# Altium footprint library resistor.PCBLIB: 427 footprints (part 4 of 27)
Each footprint in its own frame and in the unit in brackets; x right, y up, seen from the top. Pads: shape width x height; smd on the part's side, far side on the other; paste and mask are expansions set on the pad; w line width, h text height; cw(c..) or ccw(c..) is an arc to the next point about the centre after c.
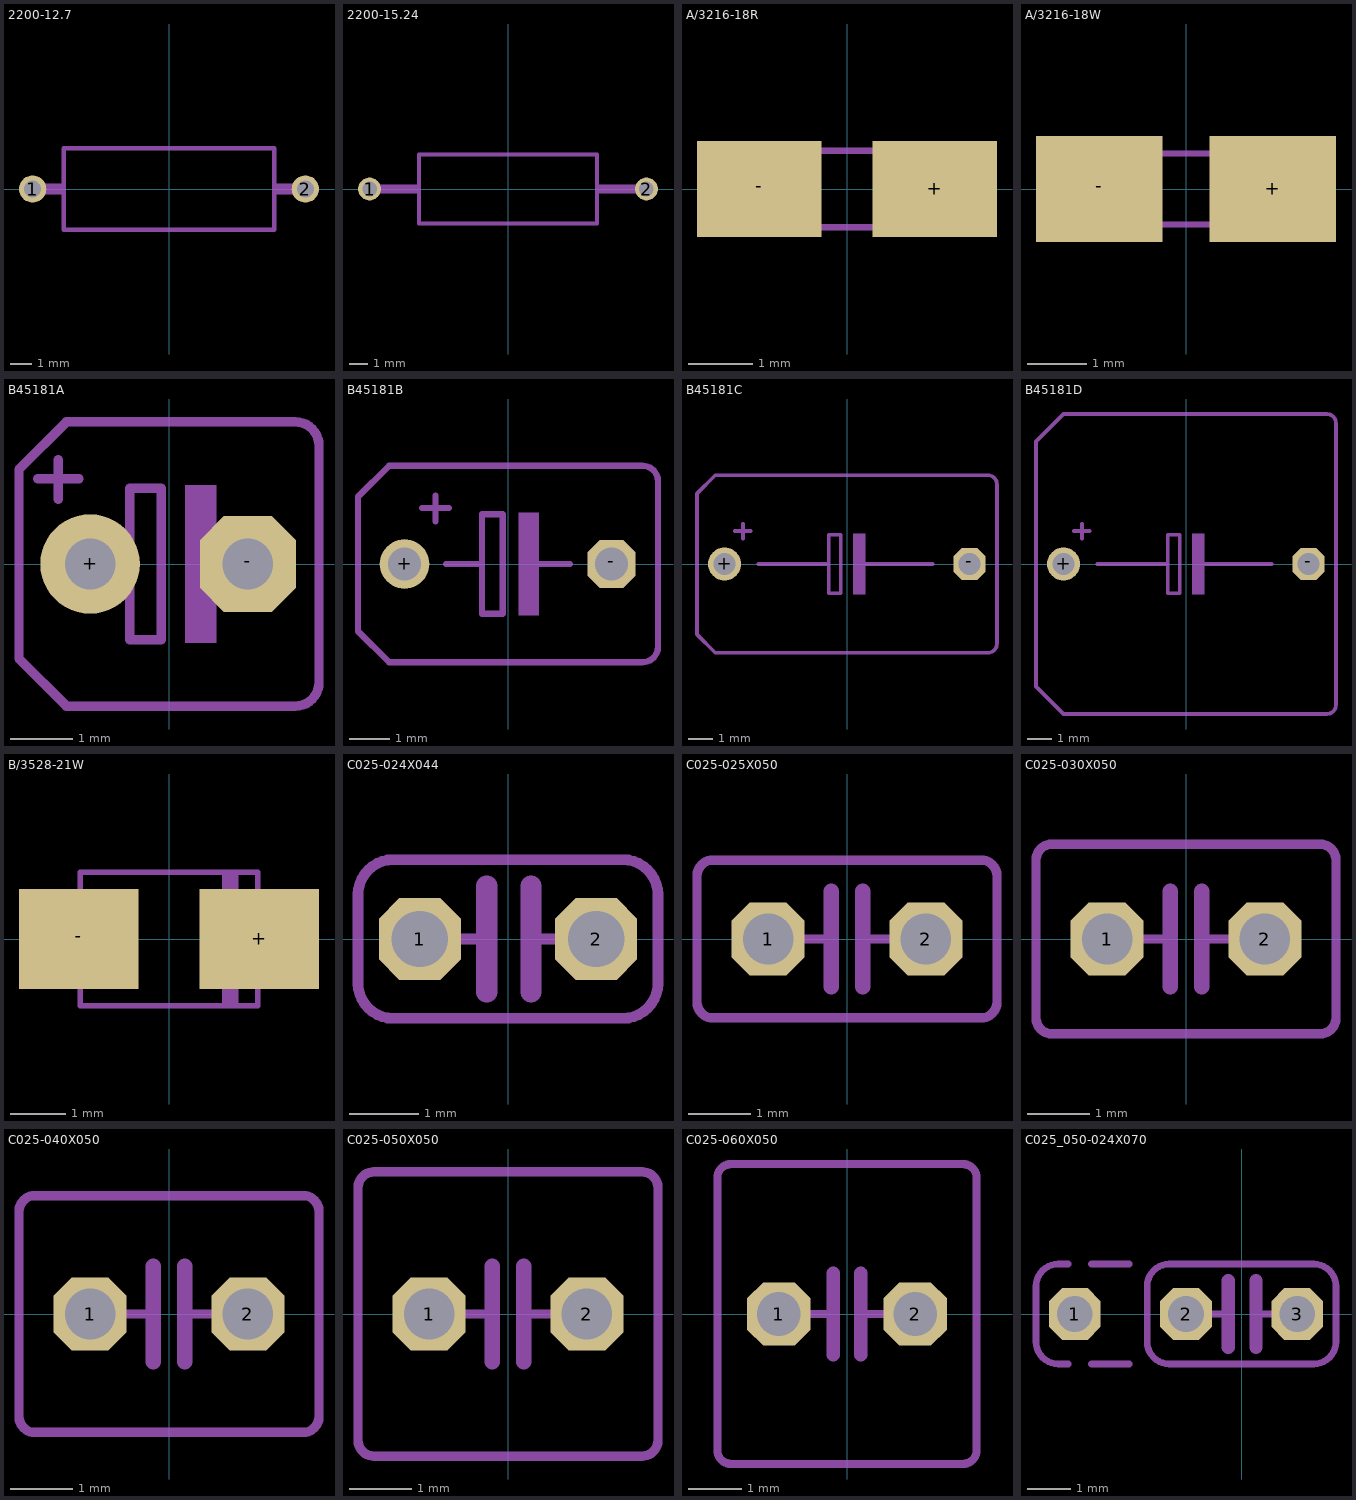
[diagram p3: the footprints below, top view; thin cyan lines are the x and y axes]

## 2200-12.7 [mil]
pads (2):
  round 50 hole 31.5: 1(-250,0) 2(250,0)
Mechanical 18:
  lines w8: -192.91,-74.8 192.91,-74.8 192.91,74.8 -192.91,74.8 -192.91,-74.8
  lines w19.69: -250,0 -200,0 ; 200,0 250,0

## 2200-15.24 [mil]
pads (2):
  round 50 hole 31.5: 1(-300,0) 2(300,0)
Mechanical 18:
  lines w8: -192.91,-74.8 192.91,-74.8 192.91,74.8 -192.91,74.8 -192.91,-74.8
  lines w19.69: -300,0 -200,0 ; 200,0 300,0

## A/3216-18R [mil]
pads (2):
  rect 76.77x59.06 smd: +(54.13,0) -(-54.13,0)
Mechanical 18:
  rectangle: -62.99,-23.62 -58.07,23.62
  rectangle: 58.07,-23.62 62.99,23.62
  rectangle: 31.5,-24.61 43.31,24.61
  lines w4: -57.09,-23.62 57.09,-23.62 57.09,23.62 -57.09,23.62 -57.09,-23.62

## A/3216-18W [mil]
pads (2):
  rect 84.65x70.87 smd: +(58.07,0) -(-58.07,0)
Mechanical 18:
  rectangle: -62.99,-23.62 -58.07,23.62
  rectangle: 58.07,-23.62 62.99,23.62
  rectangle: 31.5,-24.61 43.31,24.61
  lines w4: -57.09,-23.62 57.09,-23.62 57.09,23.62 -57.09,23.62 -57.09,-23.62

## B45181A [mil]
pads (2):
  round 63 hole 32: +(-50,0)
  oct 61x61 hole 32: -(50,0)
Mechanical 2:
  lines w6: -83,54 -57,54 ; -70,41 -70,66 ; -95,-60 -65,-90 80,-90 ccw(c80,-75) 95,-75 95,75 ccw(c80,75) 80,90 -65,90 -95,60 -95,-60
Mechanical 18:
  rectangle: 10,-50 30,50
  lines w6: -65,0 -25,0 ; 25,0 65,0 ; -25,0 -25,-48 -5,-48 -5,48 -25,48 -25,0

## B45181B [mil]
pads (2):
  round 48 hole 32: +(-100,0)
  oct 46.48x46.48 hole 32: -(100,0)
Mechanical 2:
  rectangle: 10,-50 30,50
  lines w6: -83,54 -57,54 ; -70,41 -70,66 ; -60,0 -25,0 ; 25,0 60,0 ; -25,0 -25,-48 -5,-48 -5,48 -25,48 -25,0 ; -145,-65 -115,-95 130,-95 ccw(c130,-80) 145,-80 145,80 ccw(c130,80) 130,95 -115,95 -145,65 -145,-65

## B45181C [mil]
pads (2):
  round 54 hole 36: +(-200,0)
  oct 52.29x52.29 hole 36: -(200,0)
Mechanical 2:
  rectangle: 10,-50 30,50
  lines w6: -183,54 -157,54 ; -170,41 -170,66 ; -145,0 -30,0 ; 25,0 140,0 ; -30,0 -30,-48 -10,-48 -10,48 -30,48 -30,0 ; -245,-115 -215,-145 230,-145 ccw(c230,-130) 245,-130 245,130 ccw(c230,130) 230,145 -215,145 -245,115 -245,-115

## B45181D [mil]
pads (2):
  round 54 hole 36: +(-200,0)
  oct 52.29x52.29 hole 36: -(200,0)
Mechanical 2:
  rectangle: 10,-50 30,50
  lines w6: -183,54 -157,54 ; -170,41 -170,66 ; -145,0 -30,0 ; 25,0 140,0 ; -30,0 -30,-48 -10,-48 -10,48 -30,48 -30,0 ; -245,-200 -200,-245 230,-245 ccw(c230,-230) 245,-230 245,230 ccw(c230,230) 230,245 -200,245 -245,200 -245,-200

## B/3528-21W [mil]
pads (2):
  rect 84.65x70.87 smd: +(63.98,0) -(-63.98,0)
Mechanical 18:
  rectangle: -68.9,-23.62 -63.98,23.62
  rectangle: 63.98,-23.62 68.9,23.62
  rectangle: 37.4,-48.23 49.21,48.23
  lines w4: -62.99,-47.24 62.99,-47.24 62.99,47.24 -62.99,47.24 -62.99,-47.24

## C025-024X044 [mil]
pads (2):
  oct 46.48x46.48 hole 32: 1(-50,0) 2(50,0)
Mechanical 2:
  lines w6: -85,-25 -85,25 cw(c-65,25) -65,45 65,45 cw(c65,25) 85,25 85,-25 cw(c65,-25) 65,-45 -65,-45 cw(c-65,-25) -85,-25
  lines w12: -12,-30 -12,30 ; 13,-30 13,30
Mechanical 18:
  lines w6: -50,0 -12,0 ; 13,0 50,0

## C025-025X050 [mil]
pads (2):
  oct 46.48x46.48 hole 32: 1(-50,0) 2(50,0)
Mechanical 2:
  lines w6: -15,0 -10,0 ; 10,0 15,0 ; -95,-40 -95,40 cw(c-85,40) -85,50 85,50 cw(c85,40) 95,40 95,-40 cw(c85,-40) 85,-50 -85,-50 cw(c-85,-40) -95,-40
  lines w10: -10,-30 -10,0 -10,30 ; 10,-30 10,0 10,30
Mechanical 18:
  lines w6: -30,0 -15,0 ; 15,0 30,0

## C025-030X050 [mil]
pads (2):
  oct 46.48x46.48 hole 32: 1(-50,0) 2(50,0)
Mechanical 2:
  lines w6: -15,0 -10,0 ; 10,0 15,0 ; -95,-50 -95,50 cw(c-85,50) -85,60 85,60 cw(c85,50) 95,50 95,-50 cw(c85,-50) 85,-60 -85,-60 cw(c-85,-50) -95,-50
  lines w10: -10,-30 -10,0 -10,30 ; 10,-30 10,0 10,30
Mechanical 18:
  lines w6: -30,0 -15,0 ; 15,0 30,0

## C025-040X050 [mil]
pads (2):
  oct 46.48x46.48 hole 32: 1(-50,0) 2(50,0)
Mechanical 2:
  lines w6: -15,0 -10,0 ; 10,0 15,0 ; -95,-65 -95,65 cw(c-85,65) -85,75 85,75 cw(c85,65) 95,65 95,-65 cw(c85,-65) 85,-75 -85,-75 cw(c-85,-65) -95,-65
  lines w10: -10,-30 -10,0 -10,30 ; 10,-30 10,0 10,30
Mechanical 18:
  lines w6: -30,0 -15,0 ; 15,0 30,0

## C025-050X050 [mil]
pads (2):
  oct 46.48x46.48 hole 32: 1(-50,0) 2(50,0)
Mechanical 2:
  lines w6: -15,0 -10,0 ; 10,0 15,0 ; -95,-80 -95,80 cw(c-85,80) -85,90 85,90 cw(c85,80) 95,80 95,-80 cw(c85,-80) 85,-90 -85,-90 cw(c-85,-80) -95,-80
  lines w10: -10,-30 -10,0 -10,30 ; 10,-30 10,0 10,30
Mechanical 18:
  lines w6: -30,0 -15,0 ; 15,0 30,0

## C025-060X050 [mil]
pads (2):
  oct 46.48x46.48 hole 32: 1(-50,0) 2(50,0)
Mechanical 2:
  lines w6: -15,0 -10,0 ; 10,0 15,0 ; -95,-100 -95,100 cw(c-85,100) -85,110 85,110 cw(c85,100) 95,100 95,-100 cw(c85,-100) 85,-110 -85,-110 cw(c-85,-100) -95,-100
  lines w10: -10,-30 -10,0 -10,30 ; 10,-30 10,0 10,30
Mechanical 18:
  lines w6: -30,0 -15,0 ; 15,0 30,0

## C025_050-024X070 [mil]
pads (3):
  oct 46.48x46.48 hole 32: 1(-150,0) 2(-50,0) 3(50,0)
Mechanical 2:
  lines w6: -156,-45 -165,-45 cw(c-165,-25) -185,-25 -185,25 cw(c-165,25) -165,45 -156,45 ; -135,-45 -101,-45 ; -135,45 -101,45 ; -85,-25 ccw(c-65,-25) -65,-45 65,-45 ccw(c65,-25) 85,-25 ; -85,25 cw(c-65,25) -65,45 65,45 cw(c65,25) 85,25
  lines w12: -12,-30 -12,30 ; 13,-30 13,30
Mechanical 18:
  lines w6: -85,-25 -85,25 ; -50,0 -12,0 ; 13,0 50,0 ; 85,-25 85,25